# Altium footprint library LED2PINSMDGW.PcbLib: 1 footprints
Each footprint in its own frame and in the unit in brackets; x right, y up, seen from the top. Pads: shape width x height; smd on the part's side, far side on the other; paste and mask are expansions set on the pad; w line width, h text height; cw(c..) or ccw(c..) is an arc to the next point about the centre after c.
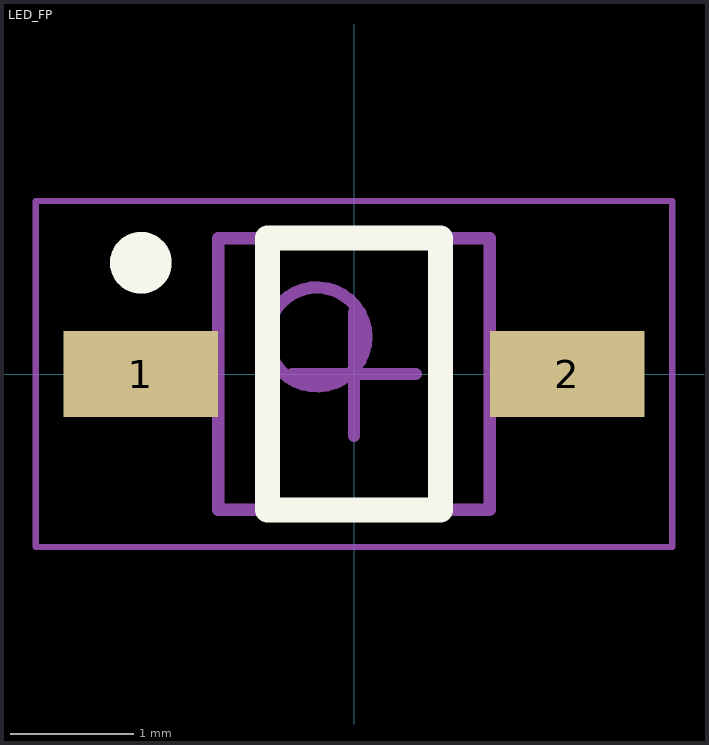
[diagram p0: the footprint, top view; thin cyan lines are the x and y axes]

## LED_FP [mm] "SOP, 2-Leads, Body 2.08x2.08mm, IPC Medium Density"
height 2.3
pads (2):
  rect 1.25x0.7 smd: 1(-1.725,0) 2(1.725,0)
L26-Silk Screen Top (Multiple PADS layers...):
  circle w0.25: c-1.725,0.9 r0.125
  lines w0.2: -0.7,-1.1 -0.7,1.1 0.7,1.1 0.7,-1.1 -0.7,-1.1
L13:
  circle w0.1: c-0.3,0.3 r0.4
  lines w0.1: -1.1,-1.1 -1.1,1.1 1.1,1.1 1.1,-1.1 -1.1,-1.1
L15 (Multiple PADS layers...):
  lines w0.05: -2.575,-1.4 -2.575,1.4 2.575,1.4 2.575,-1.4 -2.575,-1.4
  lines w0.1: -0.5,0 0.5,0 ; 0,-0.5 0,0.5
3D body: height 2.3, standoff 0.05, extent -1.1,-1.1 1.1,1.1